# Altium footprint library CRCW08054R70FKEAHP.PcbLib: 3 footprints
Each footprint in its own frame and in the unit in brackets; x right, y up, seen from the top. Pads: shape width x height; smd on the part's side, far side on the other; paste and mask are expansions set on the pad; w line width, h text height; cw(c..) or ccw(c..) is an arc to the next point about the centre after c.
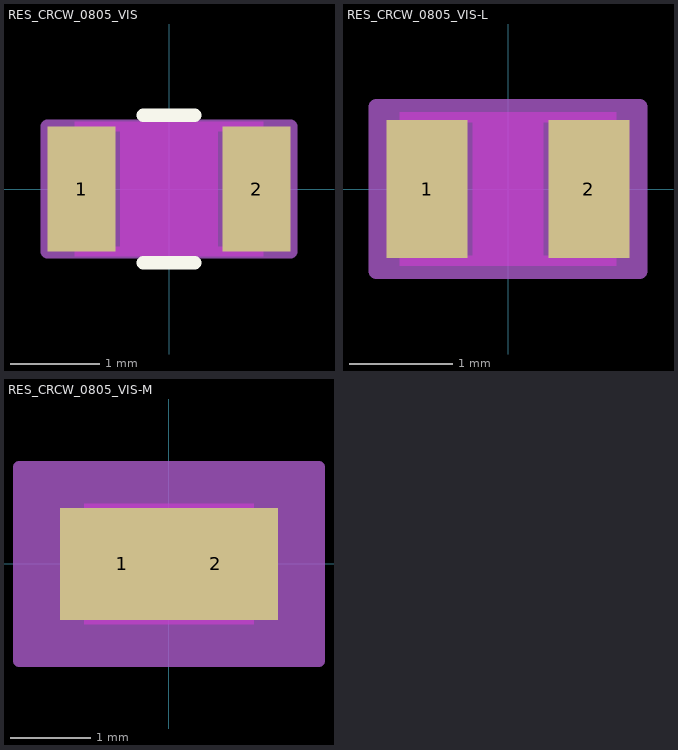
[diagram p0: the footprints below, top view; thin cyan lines are the x and y axes]

## RES_CRCW_0805_VIS [mil]
pads (2):
  rect 30x55 smd paste+0 mask+0: 1(-38.5,0) 2(38.5,0)
Top Layer keep-out:
  region: -21.5,-29.5 -21.5,29.5 21.5,29.5 21.5,-29.5
  region: -41.5,29.5 -41.5,25.5 41.5,25.5 41.5,29.5
  region: -41.5,-25.5 -41.5,-29.5 41.5,-29.5 41.5,-25.5
Top Overlay:
  lines w6: -11.39,-32.5 11.39,-32.5 ; -11.39,32.5 11.39,32.5
  text ".Designator" at -137.5,-25 h50
Keep-Out Layer:
  region: -21.5,-29.5 -21.5,29.5 21.5,29.5 21.5,-29.5
Mechanical 13:
  lines w1: -43.5,-27.5 43.5,-27.5 43.5,27.5 -43.5,27.5 -43.5,-27.5
  text ".Designator" at -137.5,-25 h50
Mechanical 15:
  region: -43.5,-27.5 -53.5,-27.5 -53.5,27.5 -43.5,27.5 43.5,27.5 53.5,27.5 53.5,-27.5 43.5,-27.5
  lines w6: -43.5,-27.5 -53.5,-27.5 -53.5,27.5 -43.5,27.5 ; -43.5,-27.5 -43.5,-27.5 ; -43.5,-27.5 43.5,-27.5 ; -43.5,27.5 -43.5,27.5 ; -43.5,27.5 43.5,27.5 ; 43.5,-27.5 53.5,-27.5 53.5,27.5 43.5,27.5 ; 43.5,-27.5 43.5,-27.5 ; 43.5,27.5 43.5,27.5
3D body "RES_CRCW_0805_VIS.step": height 20, standoff 0, extent -43.5,-27.48 43.5,27.48

## RES_CRCW_0805_VIS-L [mil]
pads (2):
  rect 31x53 smd paste+0 mask+0: 1(-31,0) 2(31,0)
Top Layer keep-out:
  region: -13.5,-29.5 -13.5,29.5 13.5,29.5 13.5,-29.5
  region: -41.5,29.5 -41.5,25.5 41.5,25.5 41.5,29.5
  region: -41.5,-25.5 -41.5,-29.5 41.5,-29.5 41.5,-25.5
Top Overlay:
  text ".Designator" at -137.5,-25 h50
Keep-Out Layer:
  region: -13.5,-29.5 -13.5,29.5 13.5,29.5 13.5,-29.5
Mechanical 13:
  lines w1: -43.5,-27.5 43.5,-27.5 43.5,27.5 -43.5,27.5 -43.5,-27.5
  text ".Designator" at -137.5,-25 h50
Mechanical 15:
  region: -47.5,-31.5 -50.5,-31.5 -50.5,31.5 -47.5,31.5 47.5,31.5 50.5,31.5 50.5,-31.5 47.5,-31.5
  lines w6: -47.5,-31.5 -50.5,-31.5 -50.5,31.5 -47.5,31.5 ; -47.5,-31.5 -47.5,-31.5 ; -47.5,-31.5 47.5,-31.5 ; -47.5,31.5 -47.5,31.5 ; -47.5,31.5 47.5,31.5 ; 47.5,-31.5 50.5,-31.5 50.5,31.5 47.5,31.5 ; 47.5,-31.5 47.5,-31.5 ; 47.5,31.5 47.5,31.5
3D body "RES_CRCW_0805_VIS.step": height 20, standoff 0, extent -43.5,-27.48 43.5,27.48

## RES_CRCW_0805_VIS-M [mil]
pads (2):
  rect 61x55 smd paste+0 mask+0: 1(-23,0) 2(23,0)
Top Layer keep-out:
  region: 9.5,-29.5 9.5,29.5 -9.5,29.5 -9.5,-29.5
  region: -41.5,29.5 -41.5,25.5 41.5,25.5 41.5,29.5
  region: -41.5,-25.5 -41.5,-29.5 41.5,-29.5 41.5,-25.5
Top Overlay:
  text ".Designator" at -137.5,-25 h50
Keep-Out Layer:
  region: 9.5,-29.5 9.5,29.5 -9.5,29.5 -9.5,-29.5
Mechanical 13:
  lines w1: -43.5,-27.5 43.5,-27.5 43.5,27.5 -43.5,27.5 -43.5,-27.5
  text ".Designator" at -137.5,-25 h50
Mechanical 15:
  region: -63.5,-47.5 -73.5,-47.5 -73.5,47.5 -63.5,47.5 63.5,47.5 73.5,47.5 73.5,-47.5 63.5,-47.5
  lines w6: -63.5,-47.5 -73.5,-47.5 -73.5,47.5 -63.5,47.5 ; -63.5,-47.5 -63.5,-47.5 ; -63.5,-47.5 63.5,-47.5 ; -63.5,47.5 -63.5,47.5 ; -63.5,47.5 63.5,47.5 ; 63.5,-47.5 73.5,-47.5 73.5,47.5 63.5,47.5 ; 63.5,-47.5 63.5,-47.5 ; 63.5,47.5 63.5,47.5
3D body "RES_CRCW_0805_VIS.step": height 20, standoff 0, extent -43.5,-27.48 43.5,27.48